# Altium schematic symbol library Display.SchLib: 10 symbols
Pins are listed as number, name and electrical type; pins without a type are passive.

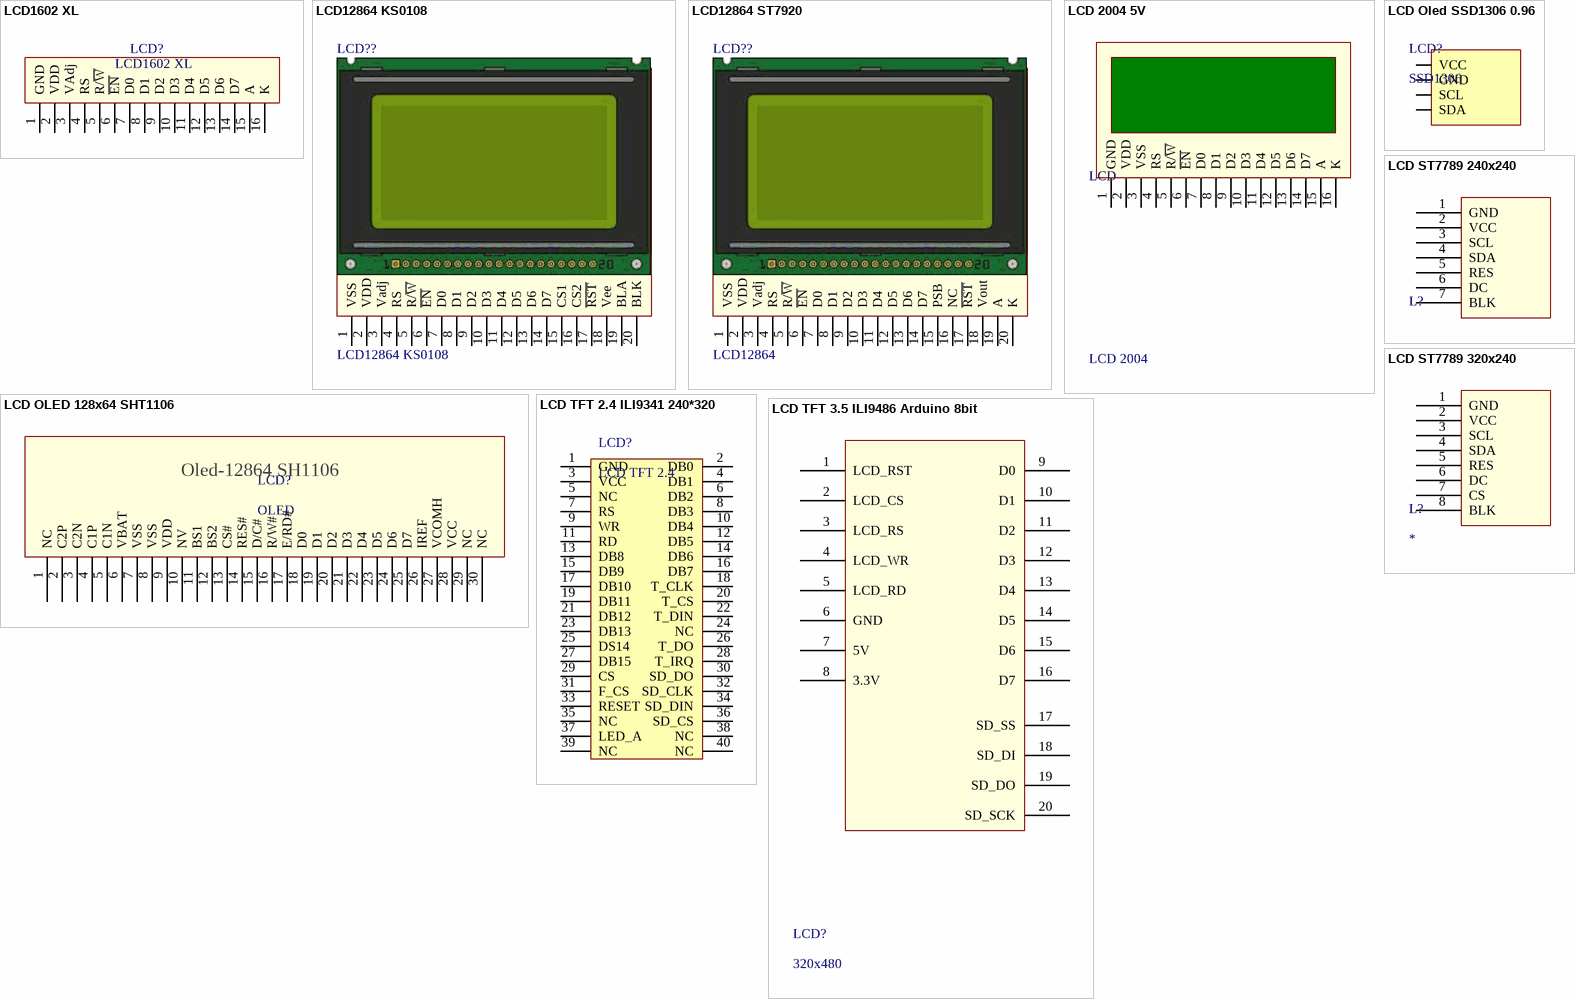
[diagram p0: symbols LCD1602 XL to LCD TFT 3.5 ILI9486 Arduino 8bit]

## LCD1602 XL
designator LCD?
LCD 1602 Xanh Lá; Ten: Màn hình LCD 1602 Xanh Lá; Ma_Hang: 67HZ; NCC: NSHOP; CHIP: HD44780
footprint LCD1602 with Jump (LCD dipslay 16x2, 16 pin)
footprint LCD1602 (LCD dipslay 16x2, 16 pin)
pins: 1 GND, 2 VDD, 3 VAdj, 4 RS, 5 R/~{W}, 6 ~{EN}, 7 D0, 8 D1, 9 D2, 10 D3, 11 D4, 12 D5, 13 D6, 14 D7, 15 A, 16 K

## LCD12864 KS0108
designator LCD??
LCD Graphic 128x64 KS0108; Value: LCD 128x64
footprint LCD128x64 (LCD Graphic 128x64, 20 pin)
pins: 1 VSS, 2 VDD, 3 Vadj, 4 RS, 5 R/~{W}, 6 ~{EN}, 7 D0, 8 D1, 9 D2, 10 D3, 11 D4, 12 D5, 13 D6, 14 D7, 15 CS1, 16 CS2, 17 ~{RST}, 18 Vee, 19 BLA, 20 BLK

## LCD12864 ST7920
designator LCD??, comment LCD12864
LCD Graphic 128x64 ST7920; Value: LCD 128x64
footprint LCD128x64 (LCD Graphic 128x64, 20 pin)
pins: 1 VSS, 2 VDD, 3 Vadj, 4 RS, 5 R/~{W}, 6 ~{EN}, 7 D0, 8 D1, 9 D2, 10 D3, 11 D4, 12 D5, 13 D6, 14 D7, 15 PSB, 16 NC, 17 ~{RST}, 18 Vout, 19 A, 20 K

## LCD 2004 5V
designator LCD, comment LCD 2004
LCD 2004 5V Xanh Dương; Ten: LCD 2004 Xanh Dương; Ma_Hang: WVEZ; CHIP: HD44780; Don Vi Mua: Nshop
footprint LCD 2004 (LCD dipslay 20x4, 16 pin)
pins: 1 GND, 2 VDD, 3 VSS, 4 RS, 5 R/~{W}, 6 ~{EN}, 7 D0, 8 D1, 9 D2, 10 D3, 11 D4, 12 D5, 13 D6, 14 D7, 15 A, 16 K

## LCD OLED 128x64 SHT1106
designator LCD?, comment OLED
LCD OLED 128x64 SHT1106 only sceen
footprint LCD OLED 128x64 SHT1106
pins: 1 NC, 2 C2P, 3 C2N, 4 C1P, 5 C1N, 6 VBAT, 7 VSS, 8 VSS, 9 VDD, 10 NV, 11 BS1, 12 BS2, 13 CS#, 14 RES#, 15 D/C#, 16 R/W#, 17 E/RD#, 18 D0, 19 D1, 20 D2, 21 D3, 22 D4, 23 D5, 24 D6, 25 D7, 26 IREF, 27 VCOMH, 28 VCC, 29 NC, 30 NC
text: Oled-12864 SH1106

## LCD Oled SSD1306 0.96
designator LCD?, comment SSD1306
LCD Oled SSD1306 0.96
footprint SSD1306
pins: 1 VCC, 2 GND, 3 SCL, 4 SDA

## LCD ST7789 240x240
designator L?  (value not drawn)
LCD ST7789 240x240
footprint ST7789 240x240
pins: 1 GND, 2 VCC, 3 SCL, 4 SDA, 5 RES, 6 DC, 7 BLK

## LCD ST7789 320x240
designator L?
LCD ST7789 320x240
footprint ST7789 320x240
pins: 1 GND, 2 VCC, 3 SCL, 4 SDA, 5 RES, 6 DC, 7 CS, 8 BLK

## LCD TFT 2.4 ILI9341 240*320
designator LCD?, comment LCD TFT 2.4
ILI9341 Driver
footprint LCD TFT 2.4 240*320 (Connector; Header; 20x2 Position)
pins: 1 GND, 2 DB0, 3 VCC, 4 DB1, 5 NC, 6 DB2, 7 RS, 8 DB3, 9 WR, 10 DB4, 11 RD, 12 DB5, 13 DB8, 14 DB6, 15 DB9, 16 DB7, 17 DB10, 18 T_CLK, 19 DB11, 20 T_CS, 21 DB12, 22 T_DIN, 23 DB13, 24 NC, 25 DS14, 26 T_DO, 27 DB15, 28 T_IRQ, 29 CS, 30 SD_DO, 31 F_CS, 32 SD_CLK, 33 RESET, 34 SD_DIN, 35 NC, 36 SD_CS, 37 LED_A, 38 NC, 39 NC, 40 NC

## LCD TFT 3.5 ILI9486 Arduino 8bit
designator LCD?, comment 320x480
footprint LCD TFT 3.5 8bit Arduino
pins: 1 LCD_RST, 2 LCD_CS, 3 LCD_RS, 4 LCD_WR, 5 LCD_RD, 6 GND, 7 5V, 8 3.3V, 9 D0, 10 D1, 11 D2, 12 D3, 13 D4, 14 D5, 15 D6, 16 D7, 17 SD_SS, 18 SD_DI, 19 SD_DO, 20 SD_SCK